# EAGLE library part TPS63070RNMT (library TexasInstruments)
Wide Input Voltage (2V-16V) Buck-Boost Converter 15-VQFN-HR
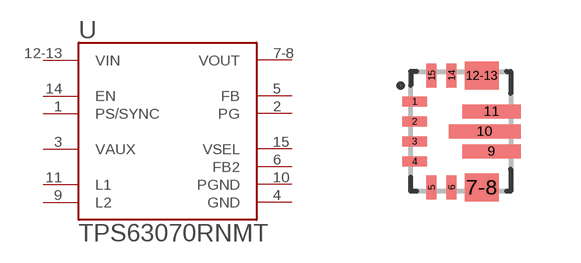
[diagram p1: symbol with the pads of QFN50P250X300X100-15N; footprint QFN50P250X300X100-15N]

Designator prefix U

## TPS63070RNMT (AVAILABILITY: Unavailable; DESCRIPTION: Conv DC-DC 2V to 16V Step Down/Step Up Single-Out 2.5V to 9V 2A 15-Pin VQFN-HR T/R; MF: Texas Instruments; MP: TPS63070RNMT; PACKAGE: VQFN-15 Texas Instruments; PRICE: None)  [QFN50P250X300X100-15N]
1  PS/SYNC  in
2  PG  out
3  VAUX  out
4  GND  pwr
5  FB  in
6  FB2  out
7-8  VOUT  out
9  L2  in
10  PGND  pwr
11  L1  in
12-13  VIN  in
14  EN  in
15  VSEL  in

## Footprint QFN50P250X300X100-15N (pad centres in mm)
smd 0.6 x 0.25: 1 -1.15,0.75; 2 -1.15,0.25; 3 -1.15,-0.25; 4 -1.15,-0.75
smd 0.25 x 0.6: 5 -0.725,-1.4; 6 -0.225,-1.4; 14 -0.225,1.4; 15 -0.725,1.4
smd 0.85 x 0.7: 7-8 0.525,-1.4; 12-13 0.525,1.4
smd 1.45 x 0.35: 9 0.775,-0.5; 11 0.775,0.5
smd 1.8 x 0.35: 10 0.6,0